# Altium schematic symbol library PDU.SchLib: 91 symbols (part 1 of 11)
Pins are listed as number, name and electrical type; pins without a type are passive.

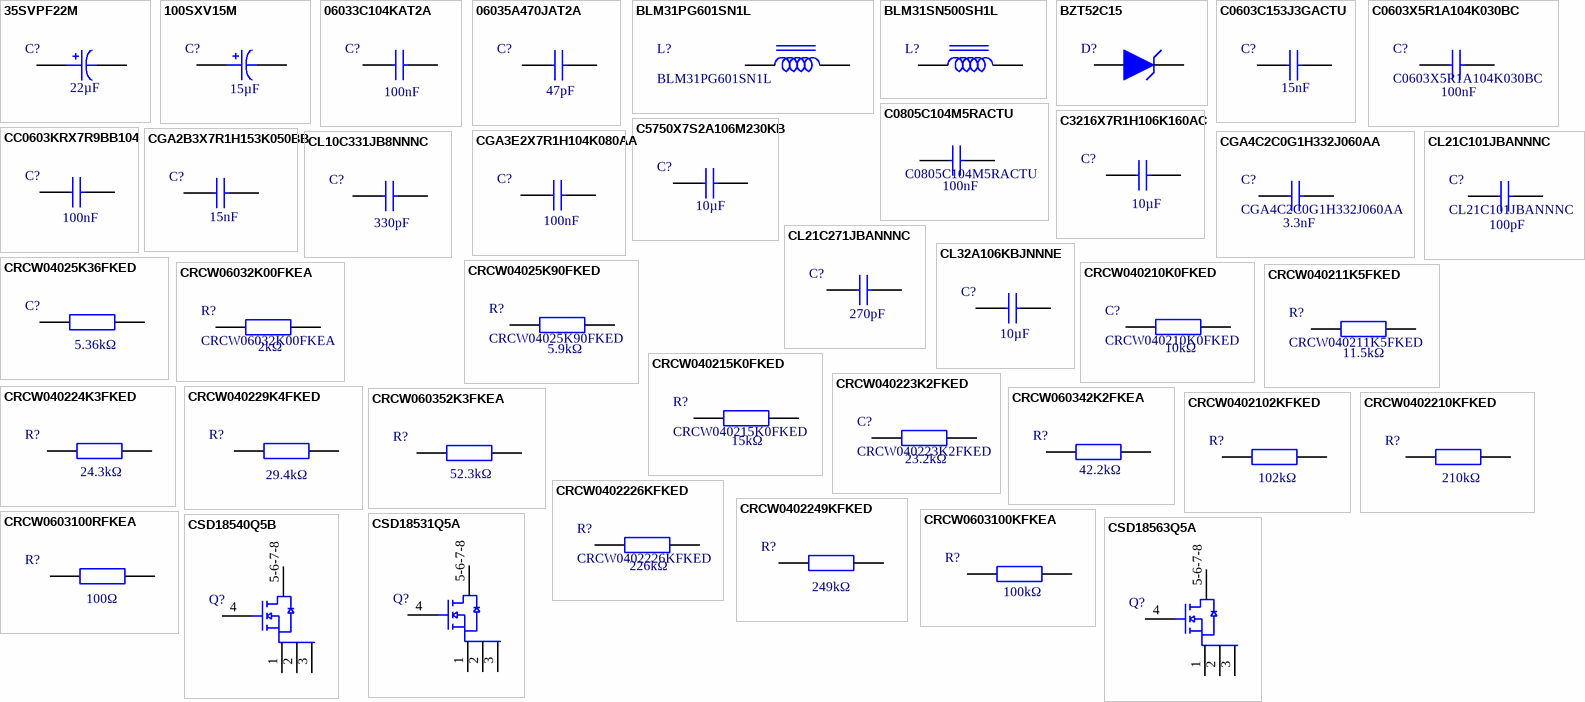
[diagram p0: symbols 35SVPF22M to CSD18563Q5A]

## 35SVPF22M
designator C?  value 22µF  (hidden comment: 35SVPF22M)
Capacitor, Aluminum Electrolytic, Solid Polymer, Polarized, 35V, 22Uf, Surface Mount, 2626; Manufacturer: Panasonic; Manufacturer Lifecycle Status: ACTIVE; Part Series: SVPF; Dissipation Factor: 12%; ESR (Equivalent Series Resistance): 35mΩ; Leakage Current: 154µA; Life (Hours): 5000hours; Polarity: Polar; Ripple Current: 130mA; Ripple Current (AC): 2.6A; Tolerance: 20%; Supplier: Farnell; Supplier Part Number: 35SVPF22M; Manufacturer Part Number: 35SVPF22M; RoHS: Compliant; Category: Aluminum Electrolytic Capacitors; Stock: 875; Pricing: 1=1,32, 50=0,872, 100=0,78, 250=0,73, 500=0,679 (EUR); Case/Package: Radial; Country of Origin: Japan; Diameter: 6.3mm; Export Control Classification Number (ECCN) Code: EAR99; Height: 5.9mm; Height - Seated (Max): 5.9944mm; Introduction Date: 2013-06-17; Length: 6.6mm; Lifecycle Status: Production; Material: Polymer; Max Operating Temperature: 105°C; Min Operating Temperature: -55°C; Mounting Technology: Surface Mount; Pins: 6; Number of Terminals: 2; REACH SVHC: Yes; Schedule B: 8532220020, 8532220020|8532220020|8532220020|8532220020|8532220020; Termination: SMD/SMT; Voltage: 35V; Voltage Rating: 35V; Voltage Rating (DC): 35V; Width: 6.6mm; ComponentLink1URL: https://datasheet.octopart.com:443/35SVPF22M-Panasonic-datasheet-61627574.pdf?src-supplier=element14+APAC; ComponentLink1Description: https://datasheet.octopart.com:443/35SVPF22M-Panasonic-datasheet-61627574.pdf?src-supplier=element14+APAC; ComponentLink2URL: https://datasheet.octopart.com:443/35SVPF22M-Panasonic-datasheet-182100667.pdf?src-supplier=IHS; ComponentLink2Description: https://datasheet.octopart.com:443/35SVPF22M-Panasonic-datasheet-182100667.pdf?src-supplier=IHS; ComponentLink3URL: https://sigma.octopart.com:443/138897373/technical_drawing/Panasonic-35SVPF22M.pdf?src-supplier=Upverter; ComponentLink3Description: https://sigma.octopart.com:443/138897373/technical_drawing/Panasonic-35SVPF22M.pdf?src-supplier=Upverter; ComponentLink4URL: https://datasheet.octopart.com:443/35SVPF22M-Panasonic-datasheet-137287092.pdf?src-supplier=TME; ComponentLink4Description: https://datasheet.octopart.com:443/35SVPF22M-Panasonic-datasheet-137287092.pdf?src-supplier=TME; ComponentLink5URL: https://datasheet.octopart.com:443/35SVPF22M-Panasonic-datasheet-154766060.pdf?src-supplier=Master+Electronics; ComponentLink5Description: https://datasheet.octopart.com:443/35SVPF22M-Panasonic-datasheet-154766060.pdf?src-supplier=Master+Electronics; ComponentLink6URL: https://sigma.octopart.com:443/150570690/technical_drawing/Panasonic-35SVPF22M.pdf?src-supplier=Panasonic+SCT; ComponentLink6Description: https://sigma.octopart.com:443/150570690/technical_drawing/Panasonic-35SVPF22M.pdf?src-supplier=Panasonic+SCT; ComponentLink7URL: https://datasheet.octopart.com:443/35SVPF22M-Panasonic-datasheet-17853225.pdf?src-supplier=Farnell; ComponentLink7Description: https://datasheet.octopart.com:443/35SVPF22M-Panasonic-datasheet-17853225.pdf?src-supplier=Farnell; ComponentLink8URL: https://datasheet.octopart.com:443/35SVPF22M-Panasonic-datasheet-17932128.pdf?src-supplier=Farnell; ComponentLink8Description: https://datasheet.octopart.com:443/35SVPF22M-Panasonic-datasheet-17932128.pdf?src-supplier=Farnell; ComponentLink9URL: https://datasheet.octopart.com:443/35SVPF22M-Panasonic-datasheet-41466111.pdf?src-supplier=RS+(Formerly+Allied+Electronics); ComponentLink9Description: https://datasheet.octopart.com:443/35SVPF22M-Panasonic-datasheet-41466111.pdf?src-supplier=RS+(Formerly+Allied+Electronics)
footprint CAP ALUM SMD (100SXV15M - 35SVPF22M)
pins: 1 C, 2 A

## 100SXV15M
designator C?  value 15µF  (hidden comment: 100SXV15M)
Cap Aluminum 15uF 100V 20% (8 X 11.9mm) Cylindrical 0.04 Ohm 2350mA 5000 hr 105°C T/R; Manufacturer: Panasonic; Manufacturer Lifecycle Status: ACTIVE; Part Series: SXV; ESR (Equivalent Series Resistance): 40mΩ; Leakage Current: 75µA; Life (Hours): 1000hours; Material: Polymer; Polarity: Polar; Ripple Current: 36.5mA; Supplier: Farnell; Supplier Part Number: 100SXV15M; Manufacturer Part Number: 100SXV15M; RoHS: Compliant; Category: Aluminum Electrolytic Capacitors; Pricing: 1=3,85, 10=2,74, 50=2,36, 100=2,09, 200=2,03 (EUR); Case/Package: 3333; Country of Origin: Japan; Diameter: 8mm; Export Control Classification Number (ECCN) Code: EAR99; Height: 11.9mm; Height - Seated (Max): 11.9888mm; Harmonized Tariff Schedule (HTS) Code: 8532.22.00.20; Introduction Date: 2013-06-17; Length: 8.3mm; Lifecycle Status: Production; Max Operating Temperature: 125°C; Min Operating Temperature: -55°C; Mounting Technology: Surface Mount; Number of Terminals: 2; REACH SVHC: Yes; Schedule B: 8532220020, 8532220020|8532220020|8532220020|8532220020|8532220020|8532220020|8532220020|8532220020|8532220020|8532220020|8532220020|8532220020|8532220020|8532220020|8532220020|8532220020|8532220020|8532220020|8532220020|8532220020|8532220020|8532220020|8532220020|85; Tolerance: 20%; Voltage Rating: 100V; Voltage Rating (DC): 100V; Width: 8.3mm; ComponentLink1URL: https://datasheet.octopart.com:443/100SXV15M-Panasonic-datasheet-182100634.pdf?src-supplier=IHS; ComponentLink1Description: https://datasheet.octopart.com:443/100SXV15M-Panasonic-datasheet-182100634.pdf?src-supplier=IHS; ComponentLink2URL: https://sigma.octopart.com:443/138897373/technical_drawing/Panasonic-100SXV15M.pdf?src-supplier=Upverter; ComponentLink2Description: https://sigma.octopart.com:443/138897373/technical_drawing/Panasonic-100SXV15M.pdf?src-supplier=Upverter; ComponentLink3URL: https://datasheet.octopart.com:443/100SXV15M-Panasonic-datasheet-84207363.pdf?src-supplier=Panasonic; ComponentLink3Description: https://datasheet.octopart.com:443/100SXV15M-Panasonic-datasheet-84207363.pdf?src-supplier=Panasonic; ComponentLink4URL: https://datasheet.octopart.com:443/100SXV15M-Panasonic-datasheet-136807604.pdf?src-supplier=Master+Electronics; ComponentLink4Description: https://datasheet.octopart.com:443/100SXV15M-Panasonic-datasheet-136807604.pdf?src-supplier=Master+Electronics; ComponentLink5URL: https://datasheet.octopart.com:443/100SXV15M-Panasonic-datasheet-137287090.pdf?src-supplier=Master+Electronics; ComponentLink5Description: https://datasheet.octopart.com:443/100SXV15M-Panasonic-datasheet-137287090.pdf?src-supplier=Master+Electronics; ComponentLink6URL: https://datasheet.octopart.com:443/100SXV15M-Panasonic-datasheet-98225043.pdf?src-supplier=Farnell; ComponentLink6Description: https://datasheet.octopart.com:443/100SXV15M-Panasonic-datasheet-98225043.pdf?src-supplier=Farnell; ComponentLink7URL: https://datasheet.octopart.com:443/100SXV15M-Panasonic-datasheet-46913357.pdf?src-supplier=Newark; ComponentLink7Description: https://datasheet.octopart.com:443/100SXV15M-Panasonic-datasheet-46913357.pdf?src-supplier=Newark; ComponentLink8URL: https://datasheet.octopart.com:443/100SXV15M-Panasonic-datasheet-78862147.pdf?src-supplier=element14+APAC; ComponentLink8Description: https://datasheet.octopart.com:443/100SXV15M-Panasonic-datasheet-78862147.pdf?src-supplier=element14+APAC; ComponentLink9URL: https://sigma.octopart.com:443/150570690/technical_drawing/Panasonic-100SXV15M.pdf?src-supplier=Panasonic+SCT; ComponentLink9Description: https://sigma.octopart.com:443/150570690/technical_drawing/Panasonic-100SXV15M.pdf?src-supplier=Panasonic+SCT
footprint CAP ALUM SMD (100SXV15M - 35SVPF22M)
pins: 1 C, 2 A

## 06033C104KAT2A
designator C?  value 100nF  (hidden comment: 06033C104KAT2A)
0603 100 nF 25 V ±10% Tolerance X7R Surface Mount Multilayer Ceramic Capacitor; Manufacturer: KYOCERA AVX; Voltage: 25V; Supplier: Future Electronics; Supplier Part Number: 06033C104KAT2A; Manufacturer Part Number: 06033C104KAT2A; RoHS: Compliant; Category: Ceramic Capacitors; Stock: 264000; Pricing: 8000=0,0028, 40000=0,0027, 100000=0,0026, 300000=0,0026, 600000=0,0024 (USD); Case/Package: 0603; Case Code (Imperial): 0603; Case Code (Metric): 1608; China RoHS: Compliant; Contact Plating: Tin; Country of Origin: Mainland China, Taiwan; Depth: 810µm; Dielectric: X7R; Dielectric Material: Ceramic; Export Control Classification Number (ECCN) Code: EAR99; Height: 900µm; Harmonized Tariff Schedule (HTS) Code: 8532.24.00.20; Introduction Date: 2003-10-30; Lead Free: Lead Free; Length: 1.6mm; Lifecycle Status: Production; Material: Ceramic; Max Operating Temperature: 125°C; Min Operating Temperature: -55°C; Mounting Technology: Surface Mount; Pins: 2; Number of Terminals: 2; Packaging: Cut Tape; Radiation Hardening: No; REACH SVHC: Yes; Schedule B: 8532240020; Termination: SMD/SMT; Thickness: 889µm; Tolerance: 10%; Voltage Rating: 25V; Voltage Rating (DC): 25V; Width: 810µm; ComponentLink1URL: https://datasheet.octopart.com:443/06033C104KAT2A-KYOCERA-AVX-datasheet-170560559.pdf?src-supplier=IHS; ComponentLink1Description: https://datasheet.octopart.com:443/06033C104KAT2A-KYOCERA-AVX-datasheet-170560559.pdf?src-supplier=IHS; ComponentLink2URL: https://datasheet.octopart.com:443/06033C104KAT2A-KYOCERA-AVX-datasheet-50865067.pdf?src-supplier=Upverter; ComponentLink2Description: https://datasheet.octopart.com:443/06033C104KAT2A-KYOCERA-AVX-datasheet-50865067.pdf?src-supplier=Upverter; ComponentLink3URL: https://sigma.octopart.com:443/147443767/technical_drawing/AVX-06033C104KAT2A.pdf?src-supplier=Upverter; ComponentLink3Description: https://sigma.octopart.com:443/147443767/technical_drawing/AVX-06033C104KAT2A.pdf?src-supplier=Upverter; ComponentLink4URL: https://datasheet.octopart.com:443/06033C104KAT2A-KYOCERA-AVX-datasheet-12587061.pdf?src-supplier=Newark; ComponentLink4Description: https://datasheet.octopart.com:443/06033C104KAT2A-KYOCERA-AVX-datasheet-12587061.pdf?src-supplier=Newark; ComponentLink5URL: https://datasheet.octopart.com:443/06033C104KAT2A-KYOCERA-AVX-datasheet-158983632.pdf?src-supplier=Newark; ComponentLink5Description: https://datasheet.octopart.com:443/06033C104KAT2A-KYOCERA-AVX-datasheet-158983632.pdf?src-supplier=Newark; ComponentLink6URL: https://datasheet.octopart.com:443/06033C104KAT2A-AVX-datasheet-12509786.pdf?src-supplier=Farnell; ComponentLink6Description: https://datasheet.octopart.com:443/06033C104KAT2A-AVX-datasheet-12509786.pdf?src-supplier=Farnell; ComponentLink7URL: https://datasheet.octopart.com:443/06033C104KAT2A-AVX-datasheet-8113618.pdf?src-supplier=Future+Electronics; ComponentLink7Description: https://datasheet.octopart.com:443/06033C104KAT2A-AVX-datasheet-8113618.pdf?src-supplier=Future+Electronics; ComponentLink8URL: https://datasheet.octopart.com:443/06033C104KAT2A-AVX-datasheet-5313617.pdf?src-supplier=Future+Electronics; ComponentLink8Description: https://datasheet.octopart.com:443/06033C104KAT2A-AVX-datasheet-5313617.pdf?src-supplier=Future+Electronics; ComponentLink9URL: https://datasheet.octopart.com:443/06033C104KAT2A-AVX-datasheet-167033.pdf?src-supplier=Future+Electronics; ComponentLink9Description: https://datasheet.octopart.com:443/06033C104KAT2A-AVX-datasheet-167033.pdf?src-supplier=Future+Electronics; ComponentLink10URL: https://datasheet.octopart.com:443/06033C104KAT2A-AVX-datasheet-78690206.pdf?src-supplier=element14+APAC; ComponentLink10Description: https://datasheet.octopart.com:443/06033C104KAT2A-AVX-datasheet-78690206.pdf?src-supplier=element14+APAC; ComponentLink11URL: https://datasheet.octopart.com:443/06033C104KAT2A-KYOCERA-AVX-datasheet-65931687.pdf?src-supplier=element14+APAC; ComponentLink11Description: https://datasheet.octopart.com:443/06033C104KAT2A-KYOCERA-AVX-datasheet-65931687.pdf?src-supplier=element14+APAC; ComponentLink12URL: https://datasheet.octopart.com:443/06033C104KAT2A-AVX-datasheet-26446220.pdf?src-supplier=element14+APAC; ComponentLink12Description: https://datasheet.octopart.com:443/06033C104KAT2A-AVX-datasheet-26446220.pdf?src-supplier=element14+APAC; ComponentLink13URL: https://datasheet.octopart.com:443/06033C104KAT2A-AVX---Kyocera-datasheet-8446237.pdf?src-supplier=TME; ComponentLink13Description: https://datasheet.octopart.com:443/06033C104KAT2A-AVX---Kyocera-datasheet-8446237.pdf?src-supplier=TME; ComponentLink14URL: https://datasheet.octopart.com:443/06033C104KAT2A-KYOCERA-AVX-datasheet-156093841.pdf?src-supplier=TME; ComponentLink14Description: https://datasheet.octopart.com:443/06033C104KAT2A-KYOCERA-AVX-datasheet-156093841.pdf?src-supplier=TME; ComponentLink15URL: https://datasheet.octopart.com:443/06033C104KAT2A-AVX-datasheet-166051239.pdf?src-supplier=Amar+Radio+Corporation; ComponentLink15Description: https://datasheet.octopart.com:443/06033C104KAT2A-AVX-datasheet-166051239.pdf?src-supplier=Amar+Radio+Corporation; ComponentLink16URL: https://datasheet.octopart.com/06033C104KAT2A-AVX---Kyocera-datasheet-13516023.pdf; ComponentLink16Description: https://datasheet.octopart.com/06033C104KAT2A-AVX---Kyocera-datasheet-13516023.pdf; ComponentLink17URL: https://datasheet.octopart.com/Commercial-Surface-Mount-Chips---X7R-Dielectric-AVX-datasheet-family-100.pdf; ComponentLink17Description: https://datasheet.octopart.com/Commercial-Surface-Mount-Chips---X7R-Dielectric-AVX-datasheet-family-100.pdf; ComponentLink18URL: https://datasheet.octopart.com:443/06033C104KAT2A-AVX-datasheet-11546901.pdf?src-supplier=Arrow+Electronics; ComponentLink18Description: https://datasheet.octopart.com:443/06033C104KAT2A-AVX-datasheet-11546901.pdf?src-supplier=Arrow+Electronics; ComponentLink19URL: https://datasheet.octopart.com:443/06033C104KAT2A-AVX-datasheet-8316804.pdf?src-supplier=Garrett; ComponentLink19Description: https://datasheet.octopart.com:443/06033C104KAT2A-AVX-datasheet-8316804.pdf?src-supplier=Garrett; ComponentLink20URL: https://datasheet.octopart.com:443/06033C104KAT2A-AVX-datasheet-5383.pdf?src-supplier=Garrett; ComponentLink20Description: https://datasheet.octopart.com:443/06033C104KAT2A-AVX-datasheet-5383.pdf?src-supplier=Garrett; ComponentLink21URL: https://datasheet.octopart.com:443/06033C104KAT2A-AVX-datasheet-148183.pdf?src-supplier=Garrett; ComponentLink21Description: https://datasheet.octopart.com:443/06033C104KAT2A-AVX-datasheet-148183.pdf?src-supplier=Garrett; ComponentLink22URL: https://datasheet.octopart.com:443/06033C104KAT2A-AVX-datasheet-7276737.pdf?src-supplier=Jameco; ComponentLink22Description: https://datasheet.octopart.com:443/06033C104KAT2A-AVX-datasheet-7276737.pdf?src-supplier=Jameco; ComponentLink23URL: https://datasheet.octopart.com:443/06033C104KAT2A-AVX-datasheet-119053.pdf?src-supplier=DigiKey; ComponentLink23Description: https://datasheet.octopart.com:443/06033C104KAT2A-AVX-datasheet-119053.pdf?src-supplier=DigiKey; ComponentLink24URL: https://datasheet.octopart.com:443/06033C104KAT2A-AVX-datasheet-4352.pdf?src-supplier=RS+(Formerly+Allied+Electronics); ComponentLink24Description: https://datasheet.octopart.com:443/06033C104KAT2A-AVX-datasheet-4352.pdf?src-supplier=RS+(Formerly+Allied+Electronics); ComponentLink25URL: http://sigma.octopart.com:80/conflict_mineral_statement/AVX-company-34.pdf?src-supplier=Compliance+Statements; ComponentLink25Description: http://sigma.octopart.com:80/conflict_mineral_statement/AVX-company-34.pdf?src-supplier=Compliance+Statements; ComponentLink26URL: http://sigma.octopart.com:80/reach_statement/AVX-company-19.pdf?src-supplier=Compliance+Statements; ComponentLink26Description: http://sigma.octopart.com:80/reach_statement/AVX-company-19.pdf?src-supplier=Compliance+Statements
footprint CAP_0603 (EMK107B7105KA-T - 06033C104KAT2A - 06035A470JAT2A - CL10C331JB8NNNC - C0603C153J3GACTU - CC0603KRX7R9BB104)
pins: 1, 2

## 06035A470JAT2A
designator C?  value 47pF  (hidden comment: 06035A470JAT2A)
50V 47pF C0G ±5% 0603 Multilayer Ceramic Capacitors MLCC - SMD/SMT ROHS; Manufacturer: KYOCERA AVX; Temperature Coefficient: 30ppm/°C; Supplier: Future Electronics; Supplier Part Number: 06035A470JAT2A; Manufacturer Part Number: 06035A470JAT2A; RoHS: Compliant; Category: Ceramic Capacitors; Stock: 1052000; Pricing: 4000=0,0061, 16000=0,0059, 60000=0,0057, 160000=0,0056, 400000=0,0053 (USD); Case/Package: 0603; Case Code (Imperial): 0603; China RoHS: Compliant; Contact Plating: Tin; Depth: 810µm; Dielectric: C0G; Dielectric Material: Ceramic; Export Control Classification Number (ECCN) Code: EAR99; Height: 900µm; Harmonized Tariff Schedule (HTS) Code: 8532.24.00.20; Introduction Date: 1996-08-01; Lead Free: Lead Free; Length: 1.6mm; Lifecycle Status: Production; Material: Ceramic; Max Operating Temperature: 125°C; Min Operating Temperature: -55°C; Mounting Technology: Surface Mount; Pins: 2; Number of Terminals: 2; Packaging: Cut Tape; Radiation Hardening: No; REACH SVHC: Yes; Schedule B: 8532240020; Termination: SMD/SMT; Thickness: 864µm; Tolerance: 5%; Voltage: 50V; Voltage Rating: 50V; Voltage Rating (AC): 50V; Voltage Rating (DC): 50V; Width: 810µm; ComponentLink1URL: https://datasheet.octopart.com:443/06035A470JAT2A-KYOCERA-AVX-datasheet-169278450.pdf?src-supplier=IHS; ComponentLink1Description: https://datasheet.octopart.com:443/06035A470JAT2A-KYOCERA-AVX-datasheet-169278450.pdf?src-supplier=IHS; ComponentLink2URL: https://sigma.octopart.com:443/147443767/technical_drawing/AVX-06035A470JAT2A.pdf?src-supplier=Upverter; ComponentLink2Description: https://sigma.octopart.com:443/147443767/technical_drawing/AVX-06035A470JAT2A.pdf?src-supplier=Upverter; ComponentLink3URL: https://datasheet.octopart.com:443/06035A470JAT2A-AVX-datasheet-9883399.pdf?src-supplier=Newark; ComponentLink3Description: https://datasheet.octopart.com:443/06035A470JAT2A-AVX-datasheet-9883399.pdf?src-supplier=Newark; ComponentLink4URL: https://datasheet.octopart.com:443/06035A470JAT2A-AVX-datasheet-118583.pdf?src-supplier=Newark; ComponentLink4Description: https://datasheet.octopart.com:443/06035A470JAT2A-AVX-datasheet-118583.pdf?src-supplier=Newark; ComponentLink5URL: https://datasheet.octopart.com:443/06035A470JAT2A-KYOCERA-AVX-datasheet-65568165.pdf?src-supplier=Newark; ComponentLink5Description: https://datasheet.octopart.com:443/06035A470JAT2A-KYOCERA-AVX-datasheet-65568165.pdf?src-supplier=Newark; ComponentLink6URL: https://datasheet.octopart.com:443/06035A470JAT2A-KYOCERA-AVX-datasheet-156093840.pdf?src-supplier=element14+APAC; ComponentLink6Description: https://datasheet.octopart.com:443/06035A470JAT2A-KYOCERA-AVX-datasheet-156093840.pdf?src-supplier=element14+APAC; ComponentLink7URL: https://datasheet.octopart.com:443/06035A470JAT2A-KYOCERA-AVX-datasheet-50865065.pdf?src-supplier=HQonline; ComponentLink7Description: https://datasheet.octopart.com:443/06035A470JAT2A-KYOCERA-AVX-datasheet-50865065.pdf?src-supplier=HQonline; ComponentLink8URL: https://datasheet.octopart.com:443/06035A470JAT2A-AVX-datasheet-5313633.pdf?src-supplier=_legacy+Avnet; ComponentLink8Description: https://datasheet.octopart.com:443/06035A470JAT2A-AVX-datasheet-5313633.pdf?src-supplier=_legacy+Avnet; ComponentLink9URL: https://datasheet.octopart.com:443/06035A470JAT2A-AVX-datasheet-8398952.pdf?src-supplier=_legacy+Avnet; ComponentLink9Description: https://datasheet.octopart.com:443/06035A470JAT2A-AVX-datasheet-8398952.pdf?src-supplier=_legacy+Avnet; ComponentLink10URL: https://datasheet.octopart.com:443/06035A470JAT2A-AVX-datasheet-75321.pdf?src-supplier=Farnell; ComponentLink10Description: https://datasheet.octopart.com:443/06035A470JAT2A-AVX-datasheet-75321.pdf?src-supplier=Farnell; ComponentLink11URL: https://datasheet.octopart.com:443/06035A470JAT2A-AVX-datasheet-166051239.pdf?src-supplier=Amar+Radio+Corporation; ComponentLink11Description: https://datasheet.octopart.com:443/06035A470JAT2A-AVX-datasheet-166051239.pdf?src-supplier=Amar+Radio+Corporation; ComponentLink12URL: https://datasheet.octopart.com/06035A470JAT2A-AVX---Kyocera-datasheet-13516023.pdf; ComponentLink12Description: https://datasheet.octopart.com/06035A470JAT2A-AVX---Kyocera-datasheet-13516023.pdf; ComponentLink13URL: https://datasheet.octopart.com:443/06035A470JAT2A-AVX-datasheet-8446347.pdf?src-supplier=Future+Electronics; ComponentLink13Description: https://datasheet.octopart.com:443/06035A470JAT2A-AVX-datasheet-8446347.pdf?src-supplier=Future+Electronics; ComponentLink14URL: https://datasheet.octopart.com:443/06035A470JAT2A-AVX-datasheet-167032.pdf?src-supplier=Future+Electronics; ComponentLink14Description: https://datasheet.octopart.com:443/06035A470JAT2A-AVX-datasheet-167032.pdf?src-supplier=Future+Electronics; ComponentLink15URL: https://datasheet.octopart.com:443/06035A470JAT2A-AVX-datasheet-5379993.pdf?src-supplier=Garrett; ComponentLink15Description: https://datasheet.octopart.com:443/06035A470JAT2A-AVX-datasheet-5379993.pdf?src-supplier=Garrett; ComponentLink16URL: https://datasheet.octopart.com:443/06035A470JAT2A-AVX-datasheet-5383.pdf?src-supplier=Garrett; ComponentLink16Description: https://datasheet.octopart.com:443/06035A470JAT2A-AVX-datasheet-5383.pdf?src-supplier=Garrett; ComponentLink17URL: https://datasheet.octopart.com:443/06035A470JAT2A-AVX---Kyocera-datasheet-1421.pdf?src-supplier=TME; ComponentLink17Description: https://datasheet.octopart.com:443/06035A470JAT2A-AVX---Kyocera-datasheet-1421.pdf?src-supplier=TME; ComponentLink18URL: https://datasheet.octopart.com:443/06035A470JAT2A-AVX-datasheet-85393.pdf?src-supplier=RS+(Formerly+Allied+Electronics); ComponentLink18Description: https://datasheet.octopart.com:443/06035A470JAT2A-AVX-datasheet-85393.pdf?src-supplier=RS+(Formerly+Allied+Electronics); ComponentLink19URL: https://datasheet.octopart.com:443/06035A470JAT2A-AVX-datasheet-111405.pdf?src-supplier=Sierra+IC; ComponentLink19Description: https://datasheet.octopart.com:443/06035A470JAT2A-AVX-datasheet-111405.pdf?src-supplier=Sierra+IC; ComponentLink20URL: https://datasheet.octopart.com:443/06035A470JAT2A-AVX-datasheet-5039.pdf?src-supplier=DigiKey; ComponentLink20Description: https://datasheet.octopart.com:443/06035A470JAT2A-AVX-datasheet-5039.pdf?src-supplier=DigiKey; ComponentLink21URL: http://sigma.octopart.com:80/rohs_statement/Commercial-Surface-Mount-Chips---C0G-NP0-Dielectric-AVX-family-181.pdf?src-supplier=Compliance+Statements; ComponentLink21Description: http://sigma.octopart.com:80/rohs_statement/Commercial-Surface-Mount-Chips---C0G-NP0-Dielectric-AVX-family-181.pdf?src-supplier=Compliance+Statements; ComponentLink22URL: http://sigma.octopart.com:80/conflict_mineral_statement/AVX-company-34.pdf?src-supplier=Compliance+Statements; ComponentLink22Description: http://sigma.octopart.com:80/conflict_mineral_statement/AVX-company-34.pdf?src-supplier=Compliance+Statements; ComponentLink23URL: http://sigma.octopart.com:80/reach_statement/AVX-company-19.pdf?src-supplier=Compliance+Statements; ComponentLink23Description: http://sigma.octopart.com:80/reach_statement/AVX-company-19.pdf?src-supplier=Compliance+Statements
footprint CAP_0603 (EMK107B7105KA-T - 06033C104KAT2A - 06035A470JAT2A - CL10C331JB8NNNC - C0603C153J3GACTU - CC0603KRX7R9BB104)
pins: 1, 2

## BLM31PG601SN1L
designator L?
Ferrite Beads Multi-Layer 600Ohm 25% 100MHz 1.5A 80mOhm DCR 1206 Embossed T/R; Manufacturer: Murata; Current Rating: 1A; DC Resistance (DCR): 80mΩ; Impedance: 600Ω; Material: Ceramic; Number of Circuits: 1; Value: 90mΩ; Shielding: Unshielded; Supplier: Farnell; Supplier Part Number: BLM31PG601SN1L; Manufacturer Part Number: BLM31PG601SN1L; RoHS: Compliant; Category: Ferrite Beads and Chips; Stock: 54560; Pricing: 5=0,287, 50=0,159, 250=0,121, 500=0,106, 1500=0,0755, 3000=0,074 (EUR); Case/Package: 1206; Case Code (Imperial): 1206; Case Code (Metric): 3216; Contact Plating: Tin; Core Material: Ferrite; Country of Origin: Japan; DC Current: 1.5A; Depth: 1.6mm; Export Control Classification Number (ECCN) Code: EAR99; Frequency: 100MHz; Height: 1.1mm; Harmonized Tariff Schedule (HTS) Code: 8504.50.80.00; Introduction Date: 2001-06-01; Lead Free: Lead Free; Length: 3.2mm; Lifecycle Status: Production; Max Current Rating: 1.5A; Max DC Current: 1.5A; Clock Frequency: 100MHz; Max Operating Temperature: 125°C; Military Standard: Not; Min Operating Temperature: -55°C; Mounting Technology: Surface Mount; Number of Lines: 1; Number of Terminals: 2; Packaging: Tape and Reel; Radiation Hardening: No; REACH SVHC: Yes; RMS Current (Irms): 1.5A; Saturation Current: 1.5A; Schedule B: 8504500000, 8504500000|8504500000|8504500000|8504500000|8504500000; ESR: 80mΩ; Termination: SMD/SMT; Test Frequency: 100MHz; Tolerance: 25%; Weight: 10.007382mg; Width: 1.6mm; ComponentLink1URL: https://datasheet.octopart.com:443/BLM31PG601SN1L-Murata-datasheet-180807193.pdf?src-supplier=Farnell; ComponentLink1Description: https://datasheet.octopart.com:443/BLM31PG601SN1L-Murata-datasheet-180807193.pdf?src-supplier=Farnell; ComponentLink2URL: https://datasheet.octopart.com:443/BLM31PG601SN1L-Murata-datasheet-11030792.pdf?src-supplier=Farnell; ComponentLink2Description: https://datasheet.octopart.com:443/BLM31PG601SN1L-Murata-datasheet-11030792.pdf?src-supplier=Farnell; ComponentLink3URL: https://datasheet.octopart.com:443/BLM31PG601SN1L-Murata-datasheet-138896903.pdf?src-supplier=Upverter; ComponentLink3Description: https://datasheet.octopart.com:443/BLM31PG601SN1L-Murata-datasheet-138896903.pdf?src-supplier=Upverter; ComponentLink4URL: https://datasheet.octopart.com:443/BLM31PG601SN1L-Murata-datasheet-12522583.pdf?src-supplier=Upverter; ComponentLink4Description: https://datasheet.octopart.com:443/BLM31PG601SN1L-Murata-datasheet-12522583.pdf?src-supplier=Upverter; ComponentLink5URL: https://datasheet.octopart.com:443/BLM31PG601SN1L-Murata-datasheet-10083551.pdf?src-supplier=Upverter; ComponentLink5Description: https://datasheet.octopart.com:443/BLM31PG601SN1L-Murata-datasheet-10083551.pdf?src-supplier=Upverter; ComponentLink6URL: https://datasheet.octopart.com:443/BLM31PG601SN1L-Murata-datasheet-8508678.pdf?src-supplier=Upverter; ComponentLink6Description: https://datasheet.octopart.com:443/BLM31PG601SN1L-Murata-datasheet-8508678.pdf?src-supplier=Upverter; ComponentLink7URL: https://datasheet.octopart.com:443/BLM31PG601SN1L-Murata-datasheet-67835415.pdf?src-supplier=element14+APAC; ComponentLink7Description: https://datasheet.octopart.com:443/BLM31PG601SN1L-Murata-datasheet-67835415.pdf?src-supplier=element14+APAC; ComponentLink8URL: https://datasheet.octopart.com:443/BLM31PG601SN1L-Murata-datasheet-8377030.pdf?src-supplier=_legacy+Avnet; ComponentLink8Description: https://datasheet.octopart.com:443/BLM31PG601SN1L-Murata-datasheet-8377030.pdf?src-supplier=_legacy+Avnet; ComponentLink9URL: https://datasheet.octopart.com:443/BLM31PG601SN1L-Murata-datasheet-584344.pdf?src-supplier=_legacy+Avnet; ComponentLink9Description: https://datasheet.octopart.com:443/BLM31PG601SN1L-Murata-datasheet-584344.pdf?src-supplier=_legacy+Avnet; ComponentLink10URL: https://datasheet.octopart.com:443/BLM31PG601SN1L-Murata-datasheet-25069.pdf?src-supplier=TME; ComponentLink10Description: https://datasheet.octopart.com:443/BLM31PG601SN1L-Murata-datasheet-25069.pdf?src-supplier=TME; ComponentLink11URL: https://datasheet.octopart.com:443/BLM31PG601SN1L-Murata-datasheet-155367988.pdf?src-supplier=TME; ComponentLink11Description: https://datasheet.octopart.com:443/BLM31PG601SN1L-Murata-datasheet-155367988.pdf?src-supplier=TME; ComponentLink12URL: https://datasheet.octopart.com:443/BLM31PG601SN1L-Murata-datasheet-141258135.pdf?src-supplier=Ciiva; ComponentLink12Description: https://datasheet.octopart.com:443/BLM31PG601SN1L-Murata-datasheet-141258135.pdf?src-supplier=Ciiva; ComponentLink13URL: https://datasheet.octopart.com:443/BLM31PG601SN1L-Murata-datasheet-138707549.pdf?src-supplier=Ciiva; ComponentLink13Description: https://datasheet.octopart.com:443/BLM31PG601SN1L-Murata-datasheet-138707549.pdf?src-supplier=Ciiva; ComponentLink14URL: https://datasheet.octopart.com:443/BLM31PG601SN1L-Murata-datasheet-78375072.pdf?src-supplier=Future+Electronics; ComponentLink14Description: https://datasheet.octopart.com:443/BLM31PG601SN1L-Murata-datasheet-78375072.pdf?src-supplier=Future+Electronics; ComponentLink15URL: https://datasheet.octopart.com:443/BLM31PG601SN1L-Murata-datasheet-62086394.pdf?src-supplier=Future+Electronics; ComponentLink15Description: https://datasheet.octopart.com:443/BLM31PG601SN1L-Murata-datasheet-62086394.pdf?src-supplier=Future+Electronics; ComponentLink16URL: https://datasheet.octopart.com/BLM31PG601SN1L-Murata-datasheet-37129980.pdf; ComponentLink16Description: https://datasheet.octopart.com/BLM31PG601SN1L-Murata-datasheet-37129980.pdf; ComponentLink17URL: https://datasheet.octopart.com:443/BLM31PG601SN1L-Murata-datasheet-13563506.pdf?src-supplier=Factory+Futures; ComponentLink17Description: https://datasheet.octopart.com:443/BLM31PG601SN1L-Murata-datasheet-13563506.pdf?src-supplier=Factory+Futures; ComponentLink18URL: https://datasheet.octopart.com:443/BLM31PG601SN1L-Murata-datasheet-12545319.pdf?src-supplier=Factory+Futures; ComponentLink18Description: https://datasheet.octopart.com:443/BLM31PG601SN1L-Murata-datasheet-12545319.pdf?src-supplier=Factory+Futures; ComponentLink19URL: https://datasheet.octopart.com:443/BLM31PG601SN1L-Murata-datasheet-14066397.pdf?src-supplier=iiiC; ComponentLink19Description: https://datasheet.octopart.com:443/BLM31PG601SN1L-Murata-datasheet-14066397.pdf?src-supplier=iiiC; ComponentLink20URL: https://datasheet.octopart.com:443/BLM31PG601SN1L-Murata-datasheet-11771989.pdf?src-supplier=Arrow+Electronics; ComponentLink20Description: https://datasheet.octopart.com:443/BLM31PG601SN1L-Murata-datasheet-11771989.pdf?src-supplier=Arrow+Electronics; ComponentLink21URL: https://datasheet.octopart.com:443/BLM31PG601SN1L-Murata-datasheet-7593909.pdf?src-supplier=Jameco; ComponentLink21Description: https://datasheet.octopart.com:443/BLM31PG601SN1L-Murata-datasheet-7593909.pdf?src-supplier=Jameco; ComponentLink22URL: https://datasheet.octopart.com:443/BLM31PG601SN1L-Murata-datasheet-1584.pdf?src-supplier=RS+(Formerly+Allied+Electronics); ComponentLink22Description: https://datasheet.octopart.com:443/BLM31PG601SN1L-Murata-datasheet-1584.pdf?src-supplier=RS+(Formerly+Allied+Electronics); ComponentLink23URL: http://sigma.octopart.com:80/reach_statement/Murata-company-16.pdf?src-supplier=Compliance+Statements; ComponentLink23Description: http://sigma.octopart.com:80/reach_statement/Murata-company-16.pdf?src-supplier=Compliance+Statements
footprint CAP_1206 (C3216X7R1H106K160AC - GRM31CR71E106KA12L)
pins: 1, 2

## BLM31SN500SH1L
designator L?  (value not drawn)
Ferrite Beads Multi-Layer Power 50Ohm 25% 100MHz 12A 0.0016Ohm DCR 1206 Automotive T/R; Manufacturer: Murata; Current Rating: 10A; DC Resistance (DCR): 1.6mΩ; Impedance: 50Ω; Number of Circuits: 1; Value: 1.6mΩ; Supplier: Farnell; Supplier Part Number: BLM31SN500SH1L; Manufacturer Part Number: BLM31SN500SH1L; RoHS: Compliant; Category: Ferrite Beads and Chips; Stock: 12452; Pricing: 5=0,411, 50=0,221, 250=0,167, 500=0,147, 1500=0,111, 3000=0,109 (EUR); Case/Package: 1206; Case Code (Imperial): 1206; Case Code (Metric): 3216; Contact Plating: Tin; Core Material: Ferrite; Height: 1.1mm; Length: 3.2mm; Lifecycle Status: Production; Max Current Rating: 12A; Max Operating Temperature: 125°C; Min Operating Temperature: -55°C; Mounting Technology: Surface Mount; Number of Lines: 1; Number of Terminals: 2; Ratings: AEC-Q200; REACH SVHC: Yes; RMS Current (Irms): 12A; Schedule B: 8504500000, 8504500000|8504500000|8504500000|8504500000|8504500000|8504500000|8504500000|8504500000|8504500000|8504500000|8504500000|8504500000|8504500000|8504500000, 8504500000|8504500000|8504500000|8504500000|8504500000|8504500000|8504500000|8504500000|8504500000|8504500000|8504500000|8504500000|8504500000|8504500000|8504500000|8504500000|8504500000|8504500000|8504500000|8504500000|8504500000|8504500000|8504500000|85; ESR: 1.6mΩ; Test Frequency: 100MHz; Tolerance: 25%; Width: 1.6mm; ComponentLink1URL: https://datasheet.octopart.com:443/BLM31SN500SH1L-Murata-datasheet-180807211.pdf?src-supplier=IHS; ComponentLink1Description: https://datasheet.octopart.com:443/BLM31SN500SH1L-Murata-datasheet-180807211.pdf?src-supplier=IHS; ComponentLink2URL: https://datasheet.octopart.com:443/BLM31SN500SH1L-Murata-datasheet-141273701.pdf?src-supplier=element14+APAC; ComponentLink2Description: https://datasheet.octopart.com:443/BLM31SN500SH1L-Murata-datasheet-141273701.pdf?src-supplier=element14+APAC; ComponentLink3URL: https://datasheet.octopart.com:443/BLM31SN500SH1L-Murata-datasheet-138707554.pdf?src-supplier=Ciiva; ComponentLink3Description: https://datasheet.octopart.com:443/BLM31SN500SH1L-Murata-datasheet-138707554.pdf?src-supplier=Ciiva; ComponentLink4URL: https://datasheet.octopart.com:443/BLM31SN500SH1L-Murata-datasheet-102761985.pdf?src-supplier=Future+Electronics; ComponentLink4Description: https://datasheet.octopart.com:443/BLM31SN500SH1L-Murata-datasheet-102761985.pdf?src-supplier=Future+Electronics; ComponentLink5URL: http://sigma.octopart.com:80/reach_statement/Murata-company-16.pdf?src-supplier=Compliance+Statements; ComponentLink5Description: http://sigma.octopart.com:80/reach_statement/Murata-company-16.pdf?src-supplier=Compliance+Statements
footprint CAP_1206 (C3216X7R1H106K160AC - GRM31CR71E106KA12L)
pins: 1, 2

## BZT52C15
designator D?  (value not drawn)
BZT52C15S Series 200 mW 15 V 10 mA Surface Mount Zener Diode - SOD-323; Manufacturer: Diodes Inc.; Manufacturer Part Number: BZT52C15S-7-F; Element Configuration: Single; ESD Protection: No; Forward Current: 10mA; Forward Voltage: 900mV; Impedance: 30Ω; Max Junction Temperature (Tj): 150°C; Max Power Dissipation: 200mW; Max Reverse Leakage Current: 100nA; Number of Elements: 1; Output Current: 50mA; Polarity: Unidirectional; Reference Voltage: 15V; Reverse Voltage: 10.5V; Test Current: 5mA; Tolerance: 6%; Voltage Tolerance: 6.12%; Supplier: Arrow Electronics; Supplier Part Number: BZT52C15S-7-F; RoHS: Compliant; Category: Zener Diodes; Stock: 448; Pricing: 448=0,0267 (USD); China RoHS: Compliant; Composition: Zener; Contact Plating: Tin; Country of Origin: Mainland China, Taiwan; Export Control Classification Number (ECCN) Code: EAR99; Height: 1.2mm; Harmonized Tariff Schedule (HTS) Code: 8541.10.00.50; Introduction Date: 2002-09-04; Lead Free: Lead Free; Length: 1.8mm; Lifecycle Status: Production; Max Operating Temperature: 150°C; Min Operating Temperature: -65°C; Mounting Technology: Surface Mount; Pins: 2; Number of Terminals: 2; Packaging: Cut Tape; Peak Reverse Current: 100nA; Power Dissipation: 200mW; Power Rating: 200mW; Radiation Hardening: No; REACH SVHC: Yes; Schedule B: 8541100050, 8541100050|8541100050|8541100050|8541100050|8541100050; Termination: SMD/SMT; Voltage Rating (DC): 15V; Weight: 4.904468mg; Width: 1.4mm; Working Voltage: 15V; Zener Current: 5mA; Zener Voltage: 15V; ComponentLink1URL: https://sigma.octopart.com:443/138810740/technical_drawing/Diodes-Inc.-BZT52C15S-7-F.pdf?src-supplier=Diodes+Inc+SCT; ComponentLink1Description: https://sigma.octopart.com:443/138810740/technical_drawing/Diodes-Inc.-BZT52C15S-7-F.pdf?src-supplier=Diodes+Inc+SCT; ComponentLink2URL: https://datasheet.octopart.com:443/BZT52C15S-7-F-Diodes-Inc.-datasheet-101585694.pdf?src-supplier=element14+APAC; ComponentLink2Description: https://datasheet.octopart.com:443/BZT52C15S-7-F-Diodes-Inc.-datasheet-101585694.pdf?src-supplier=element14+APAC; ComponentLink3URL: https://datasheet.octopart.com:443/BZT52C15S-7-F-Diodes-Inc.-datasheet-11024782.pdf?src-supplier=RS+(Formerly+Allied+Electronics); ComponentLink3Description: https://datasheet.octopart.com:443/BZT52C15S-7-F-Diodes-Inc.-datasheet-11024782.pdf?src-supplier=RS+(Formerly+Allied+Electronics); ComponentLink4URL: https://datasheet.octopart.com/BZT52C15S-7-F-Diodes-Inc.-datasheet-10841798.pdf; ComponentLink4Description: https://datasheet.octopart.com/BZT52C15S-7-F-Diodes-Inc.-datasheet-10841798.pdf; ComponentLink5URL: https://datasheet.octopart.com/BZT52C15S-7-F-Diodes-Inc.-datasheet-5391111.pdf; ComponentLink5Description: https://datasheet.octopart.com/BZT52C15S-7-F-Diodes-Inc.-datasheet-5391111.pdf; ComponentLink6URL: https://datasheet.octopart.com:443/BZT52C15S-7-F-Diodes-Inc.-datasheet-101585693.pdf?src-supplier=Future+Electronics; ComponentLink6Description: https://datasheet.octopart.com:443/BZT52C15S-7-F-Diodes-Inc.-datasheet-101585693.pdf?src-supplier=Future+Electronics; ComponentLink7URL: https://datasheet.octopart.com:443/BZT52C15S-7-F-Diodes-Inc.-datasheet-12513818.pdf?src-supplier=Future+Electronics; ComponentLink7Description: https://datasheet.octopart.com:443/BZT52C15S-7-F-Diodes-Inc.-datasheet-12513818.pdf?src-supplier=Future+Electronics; ComponentLink8URL: https://datasheet.octopart.com:443/BZT52C15S-7-F-Diodes-Inc.-datasheet-10941054.pdf?src-supplier=Future+Electronics; ComponentLink8Description: https://datasheet.octopart.com:443/BZT52C15S-7-F-Diodes-Inc.-datasheet-10941054.pdf?src-supplier=Future+Electronics; ComponentLink9URL: https://datasheet.octopart.com:443/BZT52C15S-7-F-Diodes-Inc.-datasheet-10839781.pdf?src-supplier=Future+Electronics; ComponentLink9Description: https://datasheet.octopart.com:443/BZT52C15S-7-F-Diodes-Inc.-datasheet-10839781.pdf?src-supplier=Future+Electronics; ComponentLink10URL: https://datasheet.octopart.com:443/BZT52C15S-7-F-Diodes-Inc.-datasheet-10405015.pdf?src-supplier=Future+Electronics; ComponentLink10Description: https://datasheet.octopart.com:443/BZT52C15S-7-F-Diodes-Inc.-datasheet-10405015.pdf?src-supplier=Future+Electronics; ComponentLink11URL: https://datasheet.octopart.com:443/BZT52C15S-7-F-Diodes-Inc.-datasheet-5318325.pdf?src-supplier=Future+Electronics; ComponentLink11Description: https://datasheet.octopart.com:443/BZT52C15S-7-F-Diodes-Inc.-datasheet-5318325.pdf?src-supplier=Future+Electronics; ComponentLink12URL: https://datasheet.octopart.com:443/BZT52C15S-7-F-Diodes-Inc.-datasheet-14050910.pdf?src-supplier=iiiC; ComponentLink12Description: https://datasheet.octopart.com:443/BZT52C15S-7-F-Diodes-Inc.-datasheet-14050910.pdf?src-supplier=iiiC; ComponentLink13URL: https://datasheet.octopart.com:443/BZT52C15S-7-F-Diodes-Inc.-datasheet-120913.pdf?src-supplier=DigiKey; ComponentLink13Description: https://datasheet.octopart.com:443/BZT52C15S-7-F-Diodes-Inc.-datasheet-120913.pdf?src-supplier=DigiKey; ComponentLink14URL: https://datasheet.octopart.com:443/BZT52C15S-7-F-Diodes-Inc.-datasheet-1309.pdf?src-supplier=Mouser; ComponentLink14Description: https://datasheet.octopart.com:443/BZT52C15S-7-F-Diodes-Inc.-datasheet-1309.pdf?src-supplier=Mouser; ComponentLink15URL: http://sigma.octopart.com:80/15616907/materials_sheet/Diodes-Inc.-BZT52C15S-7-F.pdf?src-supplier=Compliance+Statements; ComponentLink15Description: http://sigma.octopart.com:80/15616907/materials_sheet/Diodes-Inc.-BZT52C15S-7-F.pdf?src-supplier=Compliance+Statements
footprint SOD323 (BZT52C15S-7-F)
pins: 1, 2

## C0603C153J3GACTU
designator C?  value 15nF  (hidden comment: C0603C153J3GACTU)
0603 C 15NF Ceramic Multilayer Capacitor, 25 V, +125DEGC, C0G Dielectric, +/-5%; Manufacturer: Yageo Group; Dissipation Factor: 0.1%; Temperature Coefficient: 30ppm/°C; Tolerance: 5%; Voltage: 25V; Supplier: Farnell; Supplier Part Number: C0603C153J3GACTU; Manufacturer Part Number: C0603C153J3GACTU; RoHS: Compliant; Category: Ceramic Capacitors; Stock: 31000; Pricing: 4000=0,0675 (EUR); Case/Package: 0603; Case Code (Imperial): 0603; Case Code (Metric): 1608; China RoHS: Compliant; Contact Plating: Tin; Country of Origin: Mexico; Depth: 800µm; Dielectric: C0G; Dielectric Material: Ceramic; Export Control Classification Number (ECCN) Code: EAR99; Height: 800µm; Harmonized Tariff Schedule (HTS) Code: 8532.24.00.20; Introduction Date: 2008-06-06; Lead Free: Lead Free; Length: 1.6mm; Lifecycle Status: Production; Material: Ceramic; Max Operating Temperature: 125°C; Min Operating Temperature: -55°C; Mounting Technology: Surface Mount; Pins: 2; Number of Terminals: 2; Packaging: Cut Tape; REACH SVHC: Yes; Schedule B: 8532240020, 8532240020|8532240020, 8532240020|8532240020|8532240020, 8532240020|8532240020|8532240020|8532240020; Termination: SMD/SMT; Thickness: 863.6µm; Voltage Rating: 25V; Voltage Rating (DC): 25V; Width: 800µm; ComponentLink1URL: https://datasheet.octopart.com:443/C0603C153J3GACTU-KEMET-datasheet-178132257.pdf?src-supplier=IHS; ComponentLink1Description: https://datasheet.octopart.com:443/C0603C153J3GACTU-KEMET-datasheet-178132257.pdf?src-supplier=IHS; ComponentLink2URL: https://datasheet.octopart.com:443/C0603C153J3GAC7867-KEMET-datasheet-10540709.pdf?src-supplier=IHS; ComponentLink2Description: https://datasheet.octopart.com:443/C0603C153J3GAC7867-KEMET-datasheet-10540709.pdf?src-supplier=IHS; ComponentLink3URL: https://datasheet.octopart.com:443/C0603C153J3GACTU-KEMET-datasheet-137357764.pdf?src-supplier=Upverter; ComponentLink3Description: https://datasheet.octopart.com:443/C0603C153J3GACTU-KEMET-datasheet-137357764.pdf?src-supplier=Upverter; ComponentLink4URL: https://datasheet.octopart.com:443/C0603C153J3GACTU-KEMET-datasheet-68331921.pdf?src-supplier=Farnell; ComponentLink4Description: https://datasheet.octopart.com:443/C0603C153J3GACTU-KEMET-datasheet-68331921.pdf?src-supplier=Farnell; ComponentLink5URL: https://datasheet.octopart.com:443/C0603C153J3GACTU-KEMET-datasheet-102648314.pdf?src-supplier=Farnell; ComponentLink5Description: https://datasheet.octopart.com:443/C0603C153J3GACTU-KEMET-datasheet-102648314.pdf?src-supplier=Farnell; ComponentLink6URL: https://datasheet.octopart.com:443/C0603C153J3GACTU-Kemet-datasheet-5308203.pdf?src-supplier=Farnell; ComponentLink6Description: https://datasheet.octopart.com:443/C0603C153J3GACTU-Kemet-datasheet-5308203.pdf?src-supplier=Farnell; ComponentLink7URL: https://datasheet.octopart.com:443/C0603C153J3GACTU-KEMET-datasheet-176289261.pdf?src-supplier=element14+APAC; ComponentLink7Description: https://datasheet.octopart.com:443/C0603C153J3GACTU-KEMET-datasheet-176289261.pdf?src-supplier=element14+APAC; ComponentLink8URL: https://datasheet.octopart.com:443/C0603C153J3GACTU-KEMET-datasheet-178087916.pdf?src-supplier=element14+APAC; ComponentLink8Description: https://datasheet.octopart.com:443/C0603C153J3GACTU-KEMET-datasheet-178087916.pdf?src-supplier=element14+APAC; ComponentLink9URL: https://datasheet.octopart.com:443/C0603C153J3GACTU-Kemet-datasheet-66093294.pdf?src-supplier=element14+APAC; ComponentLink9Description: https://datasheet.octopart.com:443/C0603C153J3GACTU-Kemet-datasheet-66093294.pdf?src-supplier=element14+APAC; ComponentLink10URL: https://datasheet.octopart.com:443/C0603C153J3GACTU-Kemet-datasheet-66634713.pdf?src-supplier=element14+APAC; ComponentLink10Description: https://datasheet.octopart.com:443/C0603C153J3GACTU-Kemet-datasheet-66634713.pdf?src-supplier=element14+APAC; ComponentLink11URL: https://datasheet.octopart.com:443/C0603C153J3GACTU-KEMET-datasheet-157246123.pdf?src-supplier=Electro+Sonic; ComponentLink11Description: https://datasheet.octopart.com:443/C0603C153J3GACTU-KEMET-datasheet-157246123.pdf?src-supplier=Electro+Sonic; ComponentLink12URL: https://datasheet.octopart.com:443/C0603C153J3GAC7867-KEMET-datasheet-188512010.pdf?src-supplier=ODG+(Origin+Data+Global); ComponentLink12Description: https://datasheet.octopart.com:443/C0603C153J3GAC7867-KEMET-datasheet-188512010.pdf?src-supplier=ODG+(Origin+Data+Global); ComponentLink13URL: https://datasheet.octopart.com:443/C0603C153J3GACTU-KEMET-datasheet-176142193.pdf?src-supplier=Newark; ComponentLink13Description: https://datasheet.octopart.com:443/C0603C153J3GACTU-KEMET-datasheet-176142193.pdf?src-supplier=Newark; ComponentLink14URL: https://datasheet.octopart.com:443/C0603C153J3GACTU-KEMET-datasheet-101575703.pdf?src-supplier=Newark; ComponentLink14Description: https://datasheet.octopart.com:443/C0603C153J3GACTU-KEMET-datasheet-101575703.pdf?src-supplier=Newark; ComponentLink15URL: https://datasheet.octopart.com:443/C0603C153J3GACTU-Kemet-datasheet-62307647.pdf?src-supplier=Newark; ComponentLink15Description: https://datasheet.octopart.com:443/C0603C153J3GACTU-Kemet-datasheet-62307647.pdf?src-supplier=Newark; ComponentLink16URL: https://datasheet.octopart.com:443/C0603C153J3GACTU-KEMET-datasheet-193515620.pdf?src-supplier=Newark; ComponentLink16Description: https://datasheet.octopart.com:443/C0603C153J3GACTU-KEMET-datasheet-193515620.pdf?src-supplier=Newark; ComponentLink17URL: https://datasheet.octopart.com:443/C0603C153J3GACTU-Kemet-datasheet-67830794.pdf?src-supplier=TME; ComponentLink17Description: https://datasheet.octopart.com:443/C0603C153J3GACTU-Kemet-datasheet-67830794.pdf?src-supplier=TME; ComponentLink18URL: https://datasheet.octopart.com/C0603C153J3GACTU-KEMET-datasheet-84169754.pdf; ComponentLink18Description: https://datasheet.octopart.com/C0603C153J3GACTU-KEMET-datasheet-84169754.pdf; ComponentLink19URL: https://datasheet.octopart.com:443/C0603C153J3GACTU-Kemet-datasheet-60243840.pdf?src-supplier=RS+(Formerly+Allied+Electronics); ComponentLink19Description: https://datasheet.octopart.com:443/C0603C153J3GACTU-Kemet-datasheet-60243840.pdf?src-supplier=RS+(Formerly+Allied+Electronics); ComponentLink20URL: http://sigma.octopart.com:80/conflict_mineral_statement/Yageo-company-3.pdf?src-supplier=Compliance+Statements; ComponentLink20Description: http://sigma.octopart.com:80/conflict_mineral_statement/Yageo-company-3.pdf?src-supplier=Compliance+Statements; ComponentLink21URL: http://sigma.octopart.com:80/rohs_statement/Yageo-company-2.pdf?src-supplier=Compliance+Statements; ComponentLink21Description: http://sigma.octopart.com:80/rohs_statement/Yageo-company-2.pdf?src-supplier=Compliance+Statements
footprint CAP_0603 (EMK107B7105KA-T - 06033C104KAT2A - 06035A470JAT2A - CL10C331JB8NNNC - C0603C153J3GACTU - CC0603KRX7R9BB104)
pins: 1, 2